# Altium footprint library TI Stellaris.PcbLib: 5 footprints
Each footprint in its own frame and in the unit in brackets; x right, y up, seen from the top. Pads: shape width x height; smd on the part's side, far side on the other; paste and mask are expansions set on the pad; w line width, h text height; cw(c..) or ccw(c..) is an arc to the next point about the centre after c.
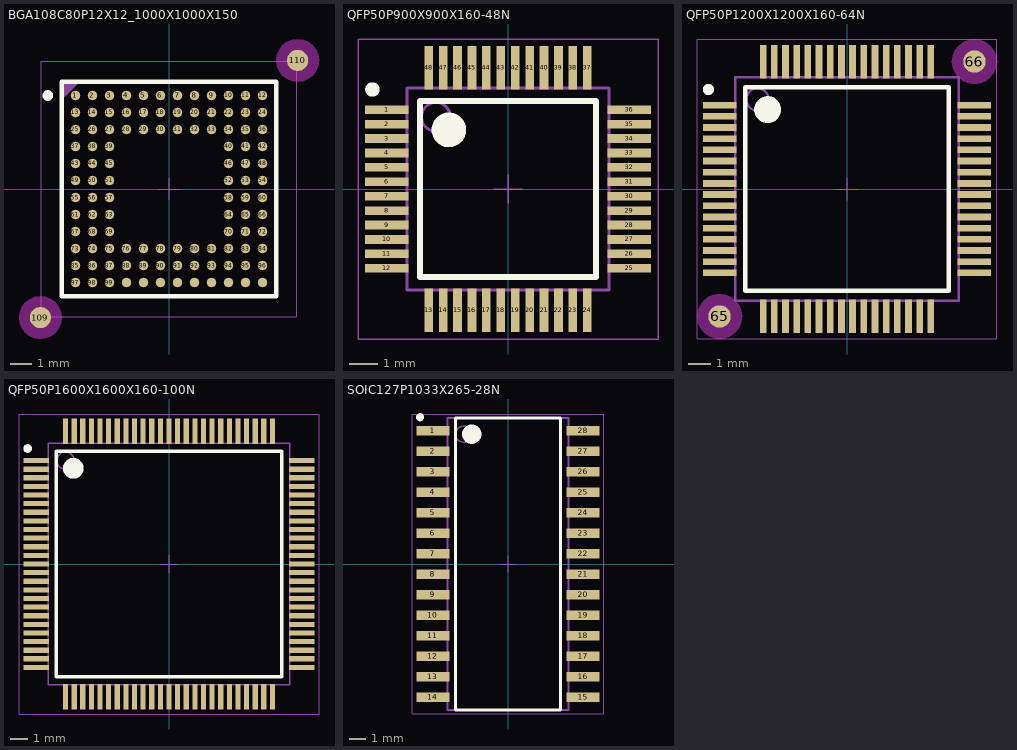
[diagram p0: the footprints below, top view; thin cyan lines are the x and y axes]

## BGA108C80P12X12_1000X1000X150 [mm]
pads (110):
  round 0.45 smd: 1(-4.4,4.4) 2(-3.6,4.4) 3(-2.8,4.4) 4(-2,4.4) 5(-1.2,4.4) 6(-0.4,4.4) 7(0.4,4.4) 8(1.2,4.4) 9(2,4.4) 10(2.8,4.4) 11(3.6,4.4) 12(4.4,4.4) 13(-4.4,3.6) 14(-3.6,3.6) 15(-2.8,3.6) 16(-2,3.6) 17(-1.2,3.6) 18(-0.4,3.6) 19(0.4,3.6) 20(1.2,3.6) 21(2,3.6) 22(2.8,3.6) 23(3.6,3.6) 24(4.4,3.6) 25(-4.4,2.8) 26(-3.6,2.8) 27(-2.8,2.8) 28(-2,2.8) 29(-1.2,2.8) 30(-0.4,2.8) 31(0.4,2.8) 32(1.2,2.8) 33(2,2.8) 34(2.8,2.8) 35(3.6,2.8) 36(4.4,2.8) 37(-4.4,2) 38(-3.6,2) 39(-2.8,2) 40(2.8,2) 41(3.6,2) 42(4.4,2) 43(-4.4,1.2) 44(-3.6,1.2) 45(-2.8,1.2) 46(2.8,1.2) 47(3.6,1.2) 48(4.4,1.2) 49(-4.4,0.4) 50(-3.6,0.4) 51(-2.8,0.4) 52(2.8,0.4) 53(3.6,0.4) 54(4.4,0.4) 55(-4.4,-0.4) 56(-3.6,-0.4) 57(-2.8,-0.4) 58(2.8,-0.4) 59(3.6,-0.4) 60(4.4,-0.4) 61(-4.4,-1.2) 62(-3.6,-1.2) 63(-2.8,-1.2) 64(2.8,-1.2) 65(3.6,-1.2) 66(4.4,-1.2) 67(-4.4,-2) 68(-3.6,-2) 69(-2.8,-2) 70(2.8,-2) 71(3.6,-2) 72(4.4,-2) 73(-4.4,-2.8) 74(-3.6,-2.8) 75(-2.8,-2.8) 76(-2,-2.8) 77(-1.2,-2.8) 78(-0.4,-2.8) 79(0.4,-2.8) 80(1.2,-2.8) 81(2,-2.8) 82(2.8,-2.8) 83(3.6,-2.8) 84(4.4,-2.8) 85(-4.4,-3.6) 86(-3.6,-3.6) 87(-2.8,-3.6) 88(-2,-3.6) 89(-1.2,-3.6) 90(-0.4,-3.6) 91(0.4,-3.6) 92(1.2,-3.6) 93(2,-3.6) 94(2.8,-3.6) 95(3.6,-3.6) 96(4.4,-3.6) 97(-4.4,-4.4) 98(-3.6,-4.4) 99(-2.8,-4.4) 100(-2,-4.4) 101(-1.2,-4.4) 102(-0.4,-4.4) 103(0.4,-4.4) 104(1.2,-4.4) 105(2,-4.4) 106(2.8,-4.4) 107(3.6,-4.4) 108(4.4,-4.4)
  round 1 smd mask+0.5: 109(-6.05,-6.05) 110(6.05,6.05)
Top Layer keep-out:
  region: -5.041,-6.05 -5.076,-5.789 -5.177,-5.546 -5.337,-5.337 -5.546,-5.177 -5.789,-5.076 -6.05,-5.041 -6.311,-5.076 -6.554,-5.177 -6.763,-5.337 -6.923,-5.546 -7.024,-5.789 -7.059,-6.05 -7.024,-6.311 -6.923,-6.554 -6.763,-6.763 -6.554,-6.923 -6.311,-7.024 -6.05,-7.059 -5.789,-7.024 -5.546,-6.923 -5.337,-6.763 -5.177,-6.554 -5.076,-6.311
  region: 7.059,6.05 7.024,6.311 6.923,6.554 6.763,6.763 6.554,6.923 6.311,7.024 6.05,7.059 5.789,7.024 5.546,6.923 5.337,6.763 5.177,6.554 5.076,6.311 5.041,6.05 5.076,5.789 5.177,5.546 5.337,5.337 5.546,5.177 5.789,5.076 6.05,5.041 6.311,5.076 6.554,5.177 6.763,5.337 6.923,5.546 7.024,5.789
Top Overlay:
  circle w0.25: c-5.7,4.4 r0.125
  lines w0.2: -5.05,-5.05 5.05,-5.05 5.05,5.05 -5.05,5.05 -5.05,-5.05
Mechanical 15:
  lines w0.1: -5,4.3 -4.3,5 ; -5,4.4 -4.4,5 ; -5,4.5 -4.5,5 ; -5,4.6 -4.6,5 ; -5,4.7 -4.7,5 ; -5,4.8 -4.8,5 ; -5,4.9 -4.9,5 ; -5,-5 5,-5 5,5 -5,5 -5,-5
Mechanical 20:
  lines w0.05: -0.5,0 0.5,0 ; 0,-0.5 0,0.5 ; -6,-6 6,-6 6,6 -6,6 -6,-6
Mechanical 21:
  lines w0.001: -5,-5 5,-5 5,5 -5,5 -5,-5

## QFP50P900X900X160-48N [mm]
pads (48):
  rect 1.5x0.3 smd: 1(-4.2,2.75) 2(-4.2,2.25) 3(-4.2,1.75) 4(-4.2,1.25) 5(-4.2,0.75) 6(-4.2,0.25) 7(-4.2,-0.25) 8(-4.2,-0.75) 9(-4.2,-1.25) 10(-4.2,-1.75) 11(-4.2,-2.25) 12(-4.2,-2.75) 25(4.2,-2.75) 26(4.2,-2.25) 27(4.2,-1.75) 28(4.2,-1.25) 29(4.2,-0.75) 30(4.2,-0.25) 31(4.2,0.25) 32(4.2,0.75) 33(4.2,1.25) 34(4.2,1.75) 35(4.2,2.25) 36(4.2,2.75)
  rect 0.3x1.5 smd: 13(-2.75,-4.2) 14(-2.25,-4.2) 15(-1.75,-4.2) 16(-1.25,-4.2) 17(-0.75,-4.2) 18(-0.25,-4.2) 19(0.25,-4.2) 20(0.75,-4.2) 21(1.25,-4.2) 22(1.75,-4.2) 23(2.25,-4.2) 24(2.75,-4.2) 37(2.75,4.2) 38(2.25,4.2) 39(1.75,4.2) 40(1.25,4.2) 41(0.75,4.2) 42(0.25,4.2) 43(-0.25,4.2) 44(-0.75,4.2) 45(-1.25,4.2) 46(-1.75,4.2) 47(-2.25,4.2) 48(-2.75,4.2)
Top Overlay:
  circle w0.6: c-2.05,2.05 r0.3
  circle w0.25: c-4.7,3.45 r0.125
  lines w0.2: -3.05,-3.05 3.05,-3.05 3.05,3.05 -3.05,3.05 -3.05,-3.05
Mechanical 15:
  circle w0.1: c-2.5,2.5 r0.5
  lines w0.1: -3.5,-3.5 3.5,-3.5 3.5,3.5 -3.5,3.5 -3.5,-3.5
Mechanical 20:
  lines w0.05: -0.5,0 0.5,0 ; 0,-0.5 0,0.5 ; -5.2,-5.2 5.2,-5.2 5.2,5.2 -5.2,5.2 -5.2,-5.2
Mechanical 21:
  lines w0.001: -3.5,-3.5 3.5,-3.5 3.5,3.5 -3.5,3.5 -3.5,-3.5

## QFP50P1200X1200X160-64N [mm]
pads (66):
  rect 1.5x0.3 smd: 1(-5.7,3.75) 2(-5.7,3.25) 3(-5.7,2.75) 4(-5.7,2.25) 5(-5.7,1.75) 6(-5.7,1.25) 7(-5.7,0.75) 8(-5.7,0.25) 9(-5.7,-0.25) 10(-5.7,-0.75) 11(-5.7,-1.25) 12(-5.7,-1.75) 13(-5.7,-2.25) 14(-5.7,-2.75) 15(-5.7,-3.25) 16(-5.7,-3.75) 33(5.7,-3.75) 34(5.7,-3.25) 35(5.7,-2.75) 36(5.7,-2.25) 37(5.7,-1.75) 38(5.7,-1.25) 39(5.7,-0.75) 40(5.7,-0.25) 41(5.7,0.25) 42(5.7,0.75) 43(5.7,1.25) 44(5.7,1.75) 45(5.7,2.25) 46(5.7,2.75) 47(5.7,3.25) 48(5.7,3.75)
  rect 0.3x1.5 smd: 17(-3.75,-5.7) 18(-3.25,-5.7) 19(-2.75,-5.7) 20(-2.25,-5.7) 21(-1.75,-5.7) 22(-1.25,-5.7) 23(-0.75,-5.7) 24(-0.25,-5.7) 25(0.25,-5.7) 26(0.75,-5.7) 27(1.25,-5.7) 28(1.75,-5.7) 29(2.25,-5.7) 30(2.75,-5.7) 31(3.25,-5.7) 32(3.75,-5.7) 49(3.75,5.7) 50(3.25,5.7) 51(2.75,5.7) 52(2.25,5.7) 53(1.75,5.7) 54(1.25,5.7) 55(0.75,5.7) 56(0.25,5.7) 57(-0.25,5.7) 58(-0.75,5.7) 59(-1.25,5.7) 60(-1.75,5.7) 61(-2.25,5.7) 62(-2.75,5.7) 63(-3.25,5.7) 64(-3.75,5.7)
  round 1 smd mask+0.5: 65(-5.7,-5.7) 66(5.7,5.7)
Top Layer keep-out:
  region: 6.709,5.7 6.674,5.961 6.573,6.204 6.413,6.413 6.204,6.573 5.961,6.674 5.7,6.709 5.439,6.674 5.196,6.573 4.987,6.413 4.827,6.204 4.726,5.961 4.691,5.7 4.726,5.439 4.827,5.196 4.987,4.987 5.196,4.827 5.439,4.726 5.7,4.691 5.961,4.726 6.204,4.827 6.413,4.987 6.573,5.196 6.674,5.439
  region: -4.691,-5.7 -4.726,-5.439 -4.827,-5.196 -4.987,-4.987 -5.196,-4.827 -5.439,-4.726 -5.7,-4.691 -5.961,-4.726 -6.204,-4.827 -6.413,-4.987 -6.573,-5.196 -6.674,-5.439 -6.709,-5.7 -6.674,-5.961 -6.573,-6.204 -6.413,-6.413 -6.204,-6.573 -5.961,-6.674 -5.7,-6.709 -5.439,-6.674 -5.196,-6.573 -4.987,-6.413 -4.827,-6.204 -4.726,-5.961
Top Overlay:
  circle w0.25: c-6.2,4.45 r0.125
  circle w0.6: c-3.55,3.55 r0.3
  lines w0.2: -4.55,-4.55 -4.55,4.55 4.55,4.55 4.55,-4.55 -4.55,-4.55
Mechanical 15:
  circle w0.1: c-4,4 r0.5
  lines w0.1: -5,-5 -5,5 5,5 5,-5 -5,-5
Mechanical 20:
  lines w0.05: -0.5,0 0.5,0 ; 0,-0.5 0,0.5 ; -6.7,-6.7 -6.7,6.7 6.7,6.7 6.7,-6.7 -6.7,-6.7
Mechanical 21:
  lines w0.001: -5,-5 -5,5 5,5 5,-5 -5,-5

## QFP50P1600X1600X160-100N [mm]
pads (100):
  rect 1.5x0.3 smd: 1(-7.7,6) 2(-7.7,5.5) 3(-7.7,5) 4(-7.7,4.5) 5(-7.7,4) 6(-7.7,3.5) 7(-7.7,3) 8(-7.7,2.5) 9(-7.7,2) 10(-7.7,1.5) 11(-7.7,1) 12(-7.7,0.5) 13(-7.7,0) 14(-7.7,-0.5) 15(-7.7,-1) 16(-7.7,-1.5) 17(-7.7,-2) 18(-7.7,-2.5) 19(-7.7,-3) 20(-7.7,-3.5) 21(-7.7,-4) 22(-7.7,-4.5) 23(-7.7,-5) 24(-7.7,-5.5) 25(-7.7,-6) 51(7.7,-6) 52(7.7,-5.5) 53(7.7,-5) 54(7.7,-4.5) 55(7.7,-4) 56(7.7,-3.5) 57(7.7,-3) 58(7.7,-2.5) 59(7.7,-2) 60(7.7,-1.5) 61(7.7,-1) 62(7.7,-0.5) 63(7.7,0) 64(7.7,0.5) 65(7.7,1) 66(7.7,1.5) 67(7.7,2) 68(7.7,2.5) 69(7.7,3) 70(7.7,3.5) 71(7.7,4) 72(7.7,4.5) 73(7.7,5) 74(7.7,5.5) 75(7.7,6)
  rect 0.3x1.5 smd: 26(-6,-7.7) 27(-5.5,-7.7) 28(-5,-7.7) 29(-4.5,-7.7) 30(-4,-7.7) 31(-3.5,-7.7) 32(-3,-7.7) 33(-2.5,-7.7) 34(-2,-7.7) 35(-1.5,-7.7) 36(-1,-7.7) 37(-0.5,-7.7) 38(0,-7.7) 39(0.5,-7.7) 40(1,-7.7) 41(1.5,-7.7) 42(2,-7.7) 43(2.5,-7.7) 44(3,-7.7) 45(3.5,-7.7) 46(4,-7.7) 47(4.5,-7.7) 48(5,-7.7) 49(5.5,-7.7) 50(6,-7.7) 76(6,7.7) 77(5.5,7.7) 78(5,7.7) 79(4.5,7.7) 80(4,7.7) 81(3.5,7.7) 82(3,7.7) 83(2.5,7.7) 84(2,7.7) 85(1.5,7.7) 86(1,7.7) 87(0.5,7.7) 88(0,7.7) 89(-0.5,7.7) 90(-1,7.7) 91(-1.5,7.7) 92(-2,7.7) 93(-2.5,7.7) 94(-3,7.7) 95(-3.5,7.7) 96(-4,7.7) 97(-4.5,7.7) 98(-5,7.7) 99(-5.5,7.7) 100(-6,7.7)
Top Overlay:
  circle w0.6: c-5.55,5.55 r0.3
  circle w0.25: c-8.2,6.7 r0.125
  lines w0.2: -6.55,-6.55 6.55,-6.55 6.55,6.55 -6.55,6.55 -6.55,-6.55
Mechanical 15:
  circle w0.1: c-6,6 r0.5
  lines w0.1: -7,-7 7,-7 7,7 -7,7 -7,-7
Mechanical 20:
  lines w0.05: -0.5,0 0.5,0 ; 0,-0.5 0,0.5 ; -8.7,-8.7 8.7,-8.7 8.7,8.7 -8.7,8.7 -8.7,-8.7
Mechanical 21:
  lines w0.001: -7,-7 7,-7 7,7 -7,7 -7,-7

## SOIC127P1033X265-28N [mm]
pads (28):
  rect 2.05x0.6 smd: 1(-4.65,8.255) 2(-4.65,6.985) 3(-4.65,5.715) 4(-4.65,4.445) 5(-4.65,3.175) 6(-4.65,1.905) 7(-4.65,0.635) 8(-4.65,-0.635) 9(-4.65,-1.905) 10(-4.65,-3.175) 11(-4.65,-4.445) 12(-4.65,-5.715) 13(-4.65,-6.985) 14(-4.65,-8.255) 15(4.65,-8.255) 16(4.65,-6.985) 17(4.65,-5.715) 18(4.65,-4.445) 19(4.65,-3.175) 20(4.65,-1.905) 21(4.65,-0.635) 22(4.65,0.635) 23(4.65,1.905) 24(4.65,3.175) 25(4.65,4.445) 26(4.65,5.715) 27(4.65,6.985) 28(4.65,8.255)
Top Overlay:
  circle w0.25: c-5.45,9.1 r0.125
  circle w0.6: c-2.25,8.05 r0.3
  lines w0.2: -3.25,-9.05 3.25,-9.05 3.25,9.05 -3.25,9.05 -3.25,-9.05
Mechanical 15:
  circle w0.1: c-2.75,8.05 r0.5
  lines w0.1: -3.75,-9.05 3.75,-9.05 3.75,9.05 -3.75,9.05 -3.75,-9.05
Mechanical 20:
  lines w0.05: -0.5,0 0.5,0 ; 0,-0.5 0,0.5 ; -5.95,-9.3 5.95,-9.3 5.95,9.3 -5.95,9.3 -5.95,-9.3
Mechanical 21:
  lines w0.001: -3.75,-9.05 3.75,-9.05 3.75,9.05 -3.75,9.05 -3.75,-9.05